# Altium integrated library HMC5883L.IntLib: 1 symbol
Pins are listed as number, name and electrical type; pins without a type are passive.

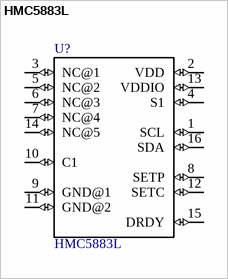
[diagram p0: symbol HMC5883L]

## HMC5883L
designator U?
Digital Compass +/- 0.8g, Lcc-16; MP: HMC5883L-T; MF: Honeywell; Package: LCC-16 Honeywell; Availability: Unavailable; SnapEDA_Link: https://www.snapeda.com/parts/HMC5883L-T/Honeywell/view-part/?ref=snap; Price: None; Value: *
footprint 16LPCC
pins: 1 SCL (io), 2 VDD (io), 3 NC@1 (io), 4 S1 (io), 5 NC@2 (io), 6 NC@3 (io), 7 NC@4 (io), 8 SETP (io), 9 GND@1 (io), 10 C1 (io), 11 GND@2 (io), 12 SETC (io), 13 VDDIO (io), 14 NC@5 (io), 15 DRDY (io), 16 SDA (io)